# Altium footprint library pcb_mk32_dsd_2022-03-231.PcbLib: 30 footprints (part 2 of 2)
Each footprint in its own frame and in the unit in brackets; x right, y up, seen from the top. Pads: shape width x height; smd on the part's side, far side on the other; paste and mask are expansions set on the pad; w line width, h text height; cw(c..) or ccw(c..) is an arc to the next point about the centre after c.
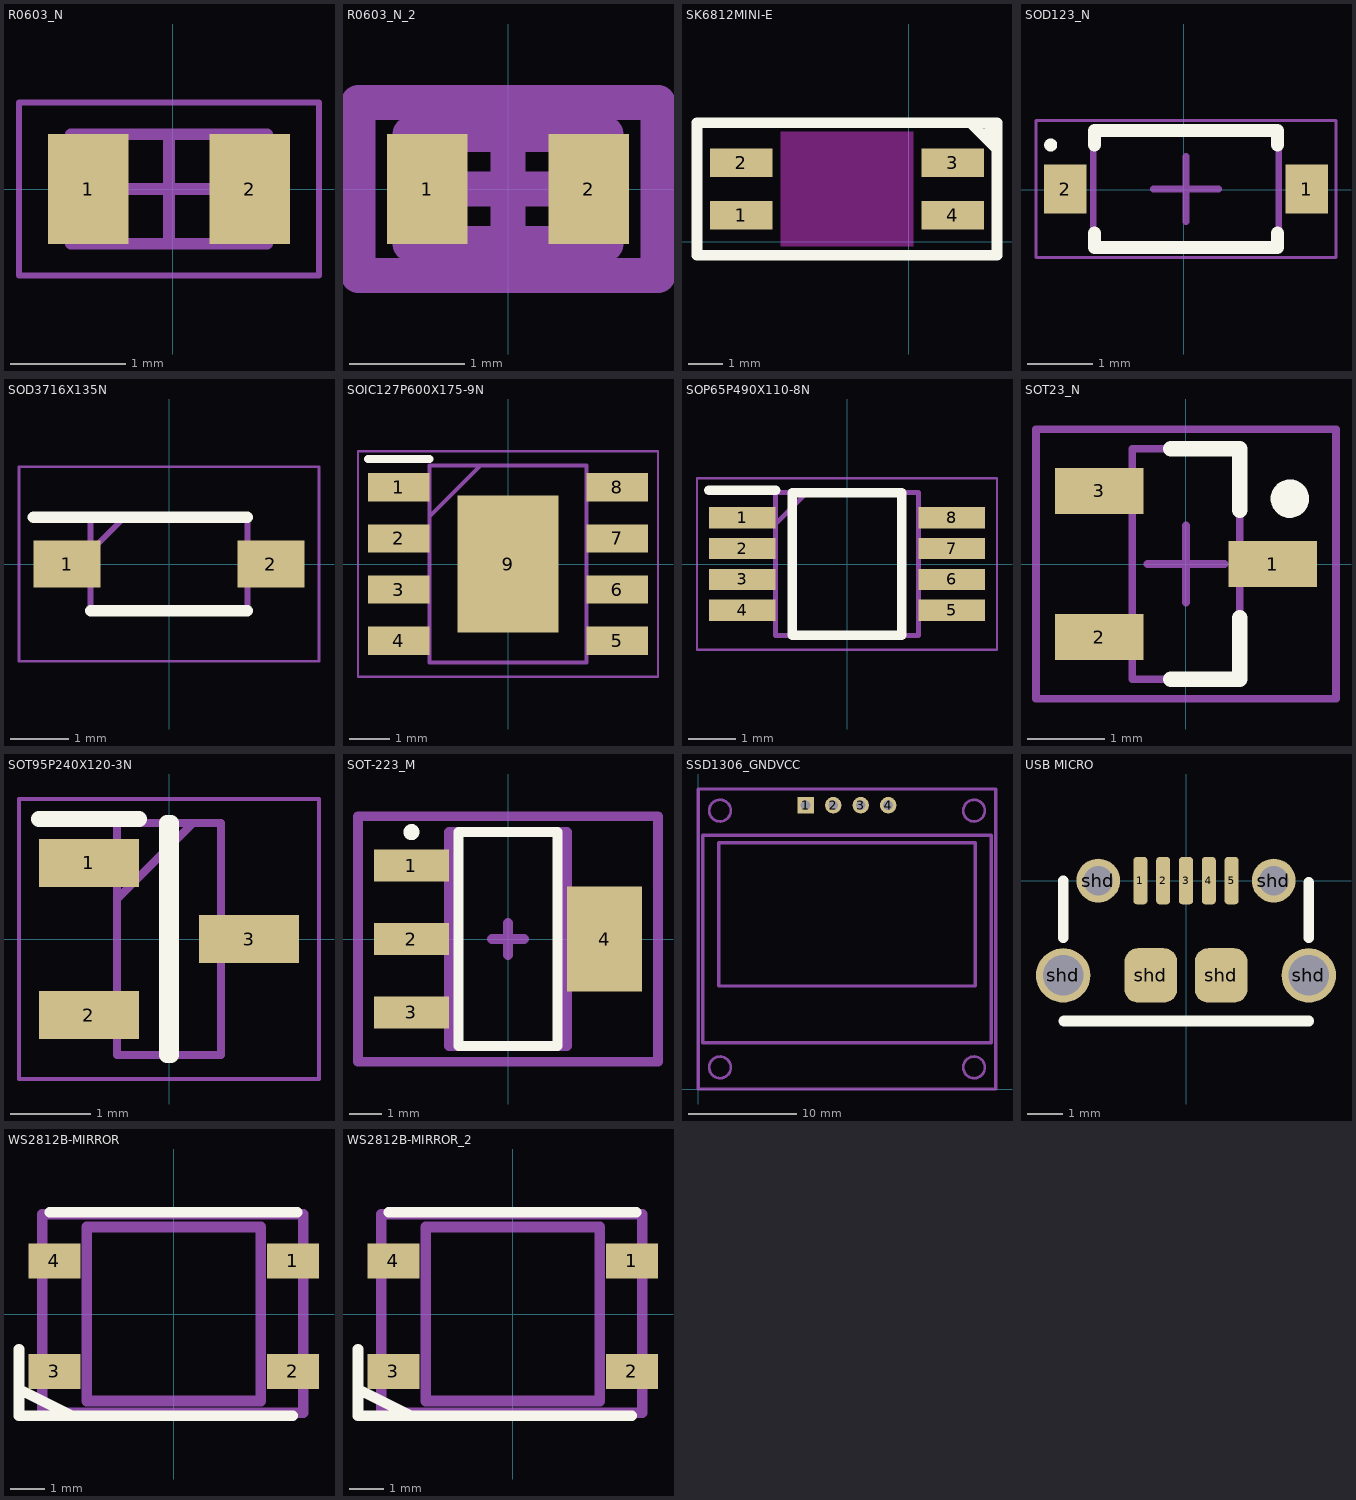
[diagram p1: the footprints below, top view; thin cyan lines are the x and y axes]

## R0603_N [mm]
pads (2):
  rect 0.7x0.95 smd: 1(-0.733,0) 2(0.667,0)
Mechanical 13:
  lines w0.1: -0.883,-0.475 -0.883,0.475 0.817,0.475 0.817,-0.475 -0.883,-0.475
Mechanical 15:
  lines w0.05: -1.333,-0.75 -1.333,0.75 1.267,0.75 1.267,-0.75 -1.333,-0.75
  lines w0.1: -0.508,0 0.442,0 ; -0.033,-0.475 -0.033,0.475
3D body "R0603N.step": height 0.6, standoff 0, extent -0.883,-0.475 0.817,0.475

## R0603_N_2 [mm]
pads (2):
  rect 0.7x0.95 smd: 1(-0.7,0) 2(0.7,0)
Mechanical 13:
  lines w0.305: -0.85,-0.475 0.85,-0.475 0.85,0.475 -0.85,0.475 -0.85,-0.475
Mechanical 15:
  lines w0.305: -0.475,0 0.475,0 ; 0,-0.475 0,0.475 ; -1.3,-0.75 1.3,-0.75 1.3,0.75 -1.3,0.75 -1.3,-0.75
3D body "R0603N.step": height 0.6, standoff 0, extent -0.85,-0.475 0.85,0.475

## SK6812MINI-E [mm]
pads (4):
  rect 1.8x0.82 smd: 1(-4.826,0.762) 2(-4.826,2.286) 3(1.27,2.286) 4(1.27,0.762)
Top Overlay:
  lines w0.305: 1.778,3.429 2.54,2.667 ; 2.286,3.175 2.413,3.302 ; -6.096,-0.381 2.54,-0.381 2.54,3.429 -6.096,3.429 -6.096,-0.381
Keep-Out Layer:
  board cut-out: 0.127,-0.127 -3.683,-0.127 -3.683,1.27 -3.683,3.175 0.127,3.175

## SOD123_N [mm]
pads (2):
  rect 0.65x0.75 smd: 1(1.886,0.011) 2(-1.814,0.011)
Top Overlay:
  circle w0.1: c-2.039,0.686 r0.05
  lines w0.2: -1.364,-0.664 -1.364,-0.889 1.436,-0.889 1.436,-0.664 ; -1.364,0.686 -1.364,0.911 1.436,0.911 1.436,0.686
Mechanical 13:
  lines w0.1: -1.384,-0.889 -1.384,0.911 1.456,0.911 1.456,-0.889 -1.384,-0.889
Mechanical 15:
  lines w0.05: -2.264,-1.039 -2.264,1.061 2.336,1.061 2.336,-1.039 -2.264,-1.039
  lines w0.1: -0.464,0.011 0.536,0.011 ; 0.036,-0.489 0.036,0.511
3D body: height 1.35, standoff 0, extent -1.384,-0.889 1.456,0.911

## SOD3716X135N [mm]
pads (2):
  rect 1.15x0.8 smd: 1(-1.75,0) 2(1.75,0)
Top Overlay:
  lines w0.2: -2.325,0.8 1.345,0.8 ; -1.345,-0.8 1.345,-0.8
Mechanical 13:
  lines w0.1: -1.345,0.225 -0.77,0.8 ; -1.345,-0.8 -1.345,0.8 1.345,0.8 1.345,-0.8 -1.345,-0.8
Mechanical 15:
  lines w0.05: -2.575,-1.67 -2.575,1.67 2.575,1.67 2.575,-1.67 -2.575,-1.67
3D body "MBR130T3G.stp": height 1.35, standoff 0, extent -1.855,-0.8 1.855,0.8

## SOIC127P600X175-9N [mm]
pads (9):
  rect 1.525x0.7 smd: 1(-2.712,1.905) 2(-2.712,0.635) 3(-2.712,-0.635) 4(-2.712,-1.905) 5(2.712,-1.905) 6(2.712,-0.635) 7(2.712,0.635) 8(2.712,1.905)
  rect 2.513x3.402 smd: 9(0,0)
Top Overlay:
  lines w0.2: -3.475,2.605 -1.95,2.605
Mechanical 13:
  lines w0.1: -1.95,1.18 -0.68,2.45 ; -1.95,-2.45 1.95,-2.45 1.95,2.45 -1.95,2.45 -1.95,-2.45
Mechanical 15:
  lines w0.05: -3.725,-2.8 3.725,-2.8 3.725,2.8 -3.725,2.8 -3.725,-2.8
3D body "TP4056.stp": height 1.75, standoff 0, extent -3,-2.45 3,2.45

## SOP65P490X110-8N [mm]
pads (8):
  rect 1.4x0.45 smd: 1(-2.2,0.975) 2(-2.2,0.325) 3(-2.2,-0.325) 4(-2.2,-0.975) 5(2.2,-0.975) 6(2.2,-0.325) 7(2.2,0.325) 8(2.2,0.975)
Top Overlay:
  lines w0.2: -2.9,1.55 -1.5,1.55 ; -1.15,-1.5 -1.15,1.5 1.15,1.5 1.15,-1.5 -1.15,-1.5
Mechanical 13:
  lines w0.1: -1.5,0.85 -0.85,1.5 ; -1.5,-1.5 -1.5,1.5 1.5,1.5 1.5,-1.5 -1.5,-1.5
Mechanical 15:
  lines w0.05: -3.15,-1.8 -3.15,1.8 3.15,1.8 3.15,-1.8 -3.15,-1.8
3D body "LM358DGKR.stp": height 1.1, standoff 0, extent -2.45,-1.5 2.45,1.5

## SOT23_N [mm] "SOT23, 3-Leads, Body 2.9x1.3mm, Pitch 0.95mm, Lead Span 2.3mm - Reverse Pinning, IPC Medium Density"
height 1.1
pads (3):
  rect 1.15x0.6 smd: 1(1.125,0) 2(-1.125,-0.95) 3(-1.125,0.95)
Top Overlay:
  circle w0.25: c1.35,0.85 r0.125
  lines w0.2: -0.2,-1.5 0.7,-1.5 0.7,-0.7 ; -0.2,1.5 0.7,1.5 0.7,0.7
Mechanical 13:
  lines w0.1: -0.7,-1.5 0.7,-1.5 0.7,1.5 -0.7,1.5 -0.7,-1.5
Mechanical 15:
  lines w0.1: -0.5,0 0.5,0 ; 0,-0.5 0,0.5 ; -1.95,-1.75 1.95,-1.75 1.95,1.75 -1.95,1.75 -1.95,-1.75
3D body: height 1.1, standoff 0, extent -0.7,-1.5 0.7,1.5

## SOT95P240X120-3N [mm]
pads (3):
  rect 1.25x0.6 smd: 1(-1,0.95) 2(-1,-0.95) 3(1,0)
Top Overlay:
  lines w0.2: -1.625,1.5 -0.375,1.5 ; -0.025,-1.45 -0.025,1.45 0.025,1.45 0.025,-1.45 -0.025,-1.45
Mechanical 13:
  lines w0.1: -0.65,0.5 0.3,1.45 ; -0.65,-1.45 -0.65,1.45 0.65,1.45 0.65,-1.45 -0.65,-1.45
Mechanical 15:
  lines w0.05: -1.875,-1.75 -1.875,1.75 1.875,1.75 1.875,-1.75 -1.875,-1.75
3D body "SI2301.stp": height 1.2, standoff 0, extent -1.2,-1.45 1.2,1.45

## SOT-223_M [mm] "SOT223, 4-Leads, Body 6.50x7.00mm (avg), Pitch 2.30mm, IPC Low Density"
height 1.8
pads (4):
  rect 2.35x1 smd: 1(-3.025,2.3) 2(-3.025,0) 3(-3.025,-2.3)
  rect 2.35x3.3 smd: 4(3.025,0)
Top Overlay:
  circle w0.25: c-3.025,3.35 r0.125
  lines w0.305: -1.55,-3.35 -1.55,3.35 1.55,3.35 1.55,-3.35 -1.55,-3.35
Mechanical 13:
  lines w0.305: -1.85,-3.35 -1.85,3.35 1.85,3.35 1.85,-3.35 -1.85,-3.35
Mechanical 15:
  lines w0.305: -0.5,0 0.5,0 ; 0,-0.5 0,0.5 ; -4.7,-3.85 -4.7,3.85 4.7,3.85 4.7,-3.85 -4.7,-3.85
3D body "SO-T223_M.step": height 1.8, standoff 0, extent -3.5,-3.35 3.5,3.35

## SSD1306_GNDVCC [mil]
pads (4):
  rect 60x60 hole 36: 1(390.59,1033.48)
  round 60 hole 36: 2(491.3,1033.5) 3(591.3,1033.5) 4(691.3,1033.5)
Mechanical 15:
  circle w10: c78.74,1013.78 r39.37
  circle w10: c1003.94,1013.78 r39.37
  circle w10: c78.74,78.74 r39.37
  circle w10: c1003.94,78.74 r39.37
  lines w12: 0,0 1082.68,0 1082.68,1092.52 0,1092.52 0,0 ; 15.75,168.5 1066.93,168.5 1066.93,924.01 15.75,924.01 15.75,168.5 ; 74.8,374.8 1007.87,374.8 1007.87,896.45 74.8,896.45 74.8,374.8
  text "VCC" at 438.83,941.2 h31.5
  text "GND" at 341.2,941.2 h31.5
  text "SCL" at 543.1,942 h31.5
  text "SDA" at 635.6,941.6 h31.5
  text "SSD1306 128x64" at 169.2,39.5 h62.99

## USB MICRO [mm]
pads (11):
  rrect50% 0.4x1.35 smd: 1(-1.3,0) 2(-0.65,0) 3(0,0) 4(0.65,0) 5(1.3,0)
  round 1.55 hole 1.15: shd(-3.5,-2.7) shd(3.5,-2.7)
  round 1.25 hole 0.85: shd(-2.5,0) shd(2.5,0)
  rrect50% 1.5x1.55 smd: shd(-1,-2.7) shd(1,-2.7)
Top Overlay:
  lines w0.305: -3.5,-1.625 -3.5,0 ; -3.475,-4 3.5,-4 ; 3.5,-1.625 3.5,-0.05
3D body "micro USB.STEP": height 2.68, standoff -0.24, extent -3.962,-5.101 4.012,0.325

## WS2812B-MIRROR [mm]
pads (4):
  rect 1.5x1 smd: 1(3.429,1.524) 2(3.429,-1.651) 3(-3.429,-1.651) 4(-3.429,1.524)
Top Overlay:
  lines w0.305: -4.445,-2.159 -2.921,-2.921 ; -4.445,-1.016 -4.445,-2.921 3.429,-2.921 ; -3.556,2.921 3.556,2.921
Mechanical 1:
  lines w0.305: -3.773,-2.838 3.727,-2.838 3.727,2.862 -3.773,2.862 -3.773,-2.838
Mechanical 15:
  lines w0.305: -2.5,-2.5 -2.5,2.5 2.5,2.5 2.5,-2.5 -2.5,-2.5

## WS2812B-MIRROR_2 [mm]
pads (4):
  rect 1.5x1 smd: 1(3.429,1.524) 2(3.429,-1.651) 3(-3.429,-1.651) 4(-3.429,1.524)
Top Overlay:
  lines w0.305: -4.445,-2.159 -2.921,-2.921 ; -4.445,-1.016 -4.445,-2.921 3.429,-2.921 ; -3.556,2.921 3.556,2.921
Mechanical 1:
  lines w0.305: -3.773,-2.838 3.727,-2.838 3.727,2.862 -3.773,2.862 -3.773,-2.838
Mechanical 15:
  lines w0.305: -2.5,-2.5 -2.5,2.5 2.5,2.5 2.5,-2.5 -2.5,-2.5